# EAGLE library part 61202022021 (library Wuerth_Elektronik_eiCan_Wire_to_Board_Connectors)
WR-BHD 2.54mm Male Box Header With Lever, 20 Pins=>Code : Con_WTB_BHD_2.54_Male_THT_WS_61202022021 <http://katalog.we-online.de/media/thumbs2/eican/thb_Con_WTB_BHD_2.54_Male_THT_WS_6120xx22021_pf2.jpg> Details see: http://katalog.we-online.de/en/em/612_0xx_220_21 Created 2014-06-05, Karrer Zheng 2014 (C) Würth Elektronik
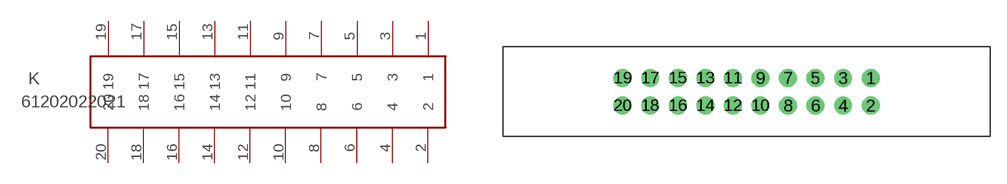
[diagram p150: symbol with the pads of 61202022021; footprint 61202022021]

Designator prefix K

## 61202022021  [61202022021]
1  1  pas
2  2  pas
3  3  pas
4  4  pas
5  5  pas
6  6  pas
7  7  pas
8  8  pas
9  9  pas
10  10  pas
11  11  pas
12  12  pas
13  13  pas
14  14  pas
15  15  pas
16  16  pas
17  17  pas
18  18  pas
19  19  pas
20  20  pas

## Footprint 61202022021 (pad centres in mm)
WR-BHD 2.54mm Male Box Header With Lever, 20 Pins
drill 1.1: 1 5.08,1.27; 2 5.08,-1.27; 3 2.54,1.27; 4 2.54,-1.27; 5 0,1.27; 6 0,-1.27; 7 -2.54,1.27; 8 -2.54,-1.27; 9 -5.08,1.27; 10 -5.08,-1.27; 11 -7.62,1.27; 12 -7.62,-1.27; 13 -10.16,1.27; 14 -10.16,-1.27; 15 -12.7,1.27; 16 -12.7,-1.27; 17 -15.24,1.27; 18 -15.24,-1.27; 19 -17.78,1.27; 20 -17.78,-1.27